# EAGLE library part CDNBS08-SLVU2.8-4 (library aq-diode)
TVS Array - Low Capacitance
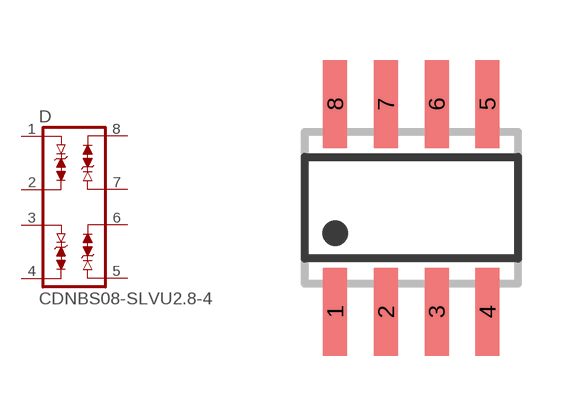
[diagram p12: symbol with the pads of SO08; footprint SO08]

Designator prefix D

## CDNBS08-SLVU2.8-4  [SO08]
1  1  pas
2  2  pas
3  3  pas
4  4  pas
5  5  pas
6  6  pas
7  7  pas
8  8  pas

## Footprint SO08 (pad centres in mm)
SMALL OUTLINE INTEGRATED CIRCUIT body 3.9 mm/JEDEC MS-012AA
smd 0.6 x 2.2: 1 -1.905,-2.6; 2 -0.635,-2.6; 3 0.635,-2.6; 4 1.905,-2.6; 5 1.905,2.6; 6 0.635,2.6; 7 -0.635,2.6; 8 -1.905,2.6